# Altium schematic symbol library GENERIC_MOSFET.SchLib: 1 symbol
Pins are listed as number, name and electrical type; pins without a type are passive.

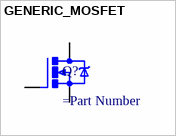
[diagram p0: symbol GENERIC_MOSFET]

## GENERIC_MOSFET
designator Q?
=Description
pins: 1, 2, 3